# EAGLE library part ENCODEUR_ROTATIF (library vincent)
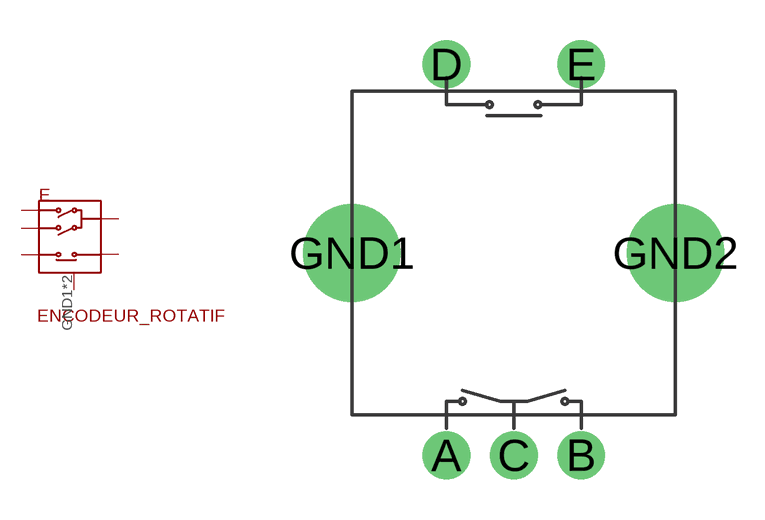
[diagram p4: symbol with the pads of ENCODEUR_ROTATIF_ALPS_EC11; footprint ENCODEUR_ROTATIF_ALPS_EC11]

Designator prefix E

## ENCODEUR_ROTATIF  [ENCODEUR_ROTATIF_ALPS_EC11]
A  A
B  B
C  C
D  D
E  E
GND1  GND  pas
GND2  GND  pas

## Footprint ENCODEUR_ROTATIF_ALPS_EC11 (pad centres in mm)
drill 1 pad 1.778: A -2.5,-7.5; B 2.5,-7.5; C 0,-7.5; D -2.5,7; E 2.5,7
drill 2.6: GND1 -6,0; GND2 6,0